# Altium schematic symbol library Inductors.SchLib: 53 symbols
Pins are listed as number, name and electrical type; pins without a type are passive.

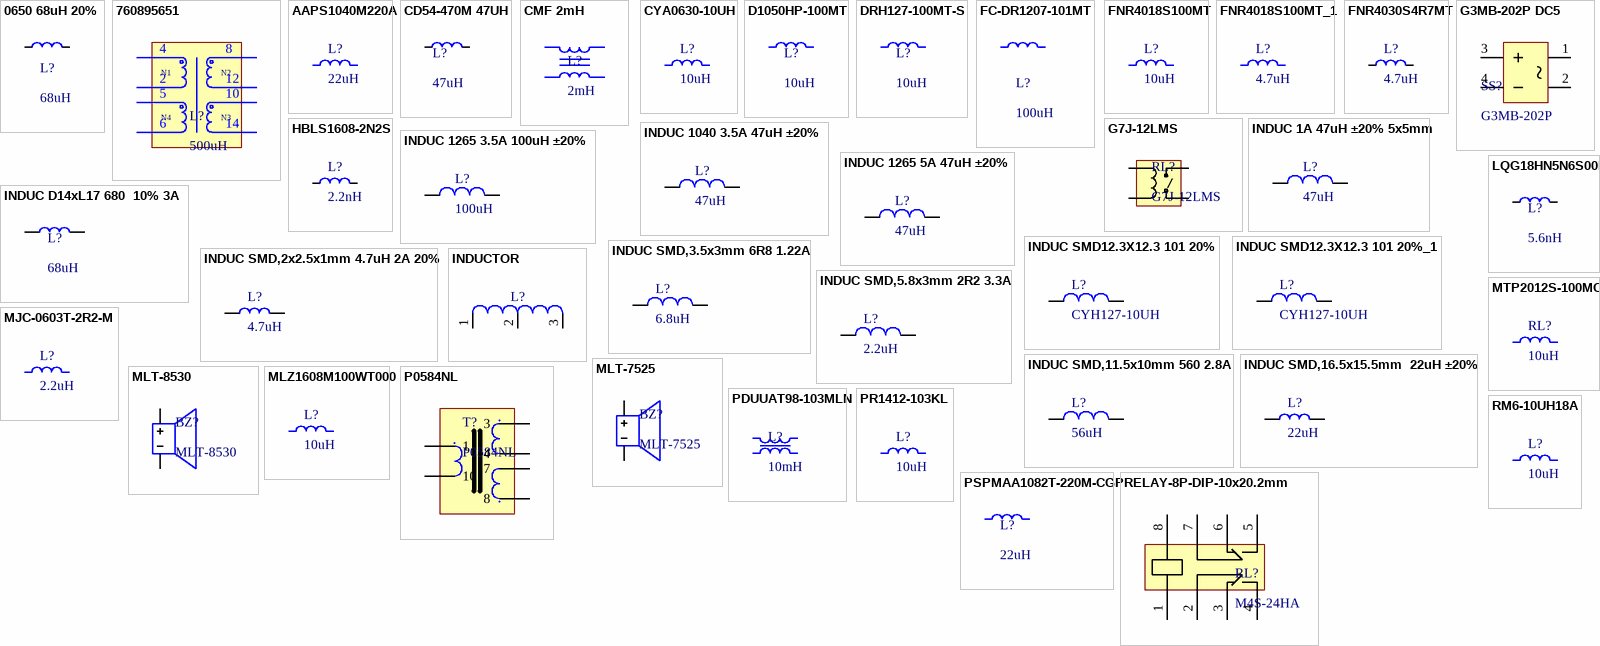
[diagram p0: symbols 0650 68uH 20% to RM6-10UH18A]

## 0650 68uH 20%
designator L?, comment 68uH
1.2A 68uH Molding Choke ±20% 2.2A 0650 Power Inductors ROHS; Manufacturer: DMBJ; Mfr.Part #: CXP0650-680M-AG(68uh); Name: 0650-68uH; So_Chan_Dan: 2; So_Chan_Cam: 0; Package: 0650
footprint 0650 (SMD,7.1x6.6mm)
pins: 1, 2

## 760895651
designator L?, comment 500uH
Resonant Converters For For AC/DC Converters SMPS Transformer 4000Vrms Isolation 70 ~ 120kHz Through Hole; Manufacturer: Würth Elektronik; Mfr.Part #: 760895651; Package: Through Hole,43x44mm; LCSC Part #: NO; DigiKey Part Number: 732-5067-ND; ComponentLink1Description: Link 1; ComponentLink1URL: https://www.digikey.com/en/products/detail/w%C3%BCrth-elektronik/760895651/4692729?s=N4IgTCBcDaIOwDYAMAOAnAVgRgjCAugL5A
footprint Through Hole,43x44mm
pins: 2, 4, 5, 6, 8, 10, 12, 14
text: N1; N2; N4; N3

## AAPS1040M220A
designator L?, comment 22uH
5.05A 22uH 65.3mΩ 5.55A ±20% SMD,11.5x10mm Fixed Inductors RoHS; Manufacturer: Coilank; Mfr.Part #: AAPS1040M220A; Package: SMD,11.5x10mm; LCSC Part #: C47327362; DigiKey Part Number: NO; ComponentLink1Description: Link; ComponentLink1URL: https://www.lcsc.com/product-detail/C47327362.html; ComponentLink2Description: Link 1
footprint SMD,11.5x10mm-(1040)
pins: 1, 2

## CD54-470M 47UH
designator L?, comment 47uH
720mA 47uH ±20% SMD,5.8x5.2mm Power Inductors ROHS; Manufacturer: DMBJ; Mfr.Part #: CD54-470M 47UH; Package: SMD,5.8x5.2mm
footprint CD54 (SMD,5.8x5.2mm)
pins: 1, 2

## CMF 2mH
designator L?, comment 2mH
2mH 2 DIP-4P,21x12.5mm Common Mode Filters ROHS; Manufacturer: XR; Mfr.Part #: XRT16128B-202VFR1L; Name: INDUC 0603 10uH 90mA 20%; So_Chan_Cam: 4; Package: DIP-4P,21x12.5mm
footprint DIP-4P,21x12.5mm
pins: 1, 2, 3, 4

## CYA0630-10UH
designator L?, comment 10uH
4A 10uH 5.5A 71mΩ ±20% SMD,7.2x6.6mm Fixed Inductors RoHS; Manufacturer: SHOU HAN; Mfr.Part #: CYA0630-10UH; Package: SMD,7.2x6.6mm; LCSC Part #: C5189958; DigiKey Part Number: NO; ComponentLink1Description: Link; ComponentLink1URL: https://www.lcsc.com/product-detail/C5189958.html?s_z=n_0630%252010u
footprint 0630,SMD,7x6.6x3mm
pins: 1, 2

## D1050HP-100MT
designator L?, comment 10uH
10uH Molded Inductor ±20% 7.5A SMD,11.6x10.1mm Power Inductors ROHS; Manufacturer: DEYAN; Mfr.Part #: D1050HP-100MT; Package: SMD,11.6x10.1mm; LCSC Part #: C41410648
footprint SMD,11.6x10.1mm
pins: 1, 2

## DRH127-100MT-S
designator L?, comment 10uH
6A 10uH 27mΩ 9A Magnetic Shielded Inductor ±20% SMD,12.5x12.5mm Fixed Inductors RoHS; Manufacturer: DEYAN; Mfr.Part #: DRH127-100MT-S; Package: SMD,12.5x12.5mm; LCSC Part #: C41410710; DigiKey Part Number: NO
footprint SMD,12.5x12.5x8mm
pins: 1, 2

## FC-DR1207-101MT
designator L?, comment 100uH
3A 100uH ±20% 175mΩ 3.5A SMD,12.5x12.5mm Fixed Inductors RoHS; Manufacturer: FANGCHENG; Mfr.Part #: FC-DR1207-101MT; LCSC Part #: C5368704; Package: SMD,12.5x12.5mm; DigiKey Part Number: NO; ComponentLink1Description: Link; ComponentLink1URL: https://www.lcsc.com/product-detail/C5368704.html?s_z=n_FC-DR1207-101MT; ComponentLink2Description: Link 1
footprint SMD,12.5x12.5x8mm
pins: 1, 2

## FNR4018S100MT
designator L?, comment 10uH
1.2A 10uH Magnetic Shielded Inductor ±20% 1.6A 234mΩ SMD,4x4mm Fixed Inductors RoHS; Manufacturer: cjiang; Mfr.Part #: FNR4018S100MT; Package: SMD,4x4mm; LCSC Part #: C167808; DigiKey Part Number: NO
footprint SMD,4x4x1.8mm(4018)
pins: 1, 2

## FNR4018S100MT_1
designator L?, comment 4.7uH
1.2A 10uH Magnetic Shielded Inductor ±20% 1.6A 234mΩ SMD,4x4mm Fixed Inductors RoHS; Manufacturer: cjiang; Mfr.Part #: FNR4018S100MT; Package: SMD,4x4mm; LCSC Part #: C167808; DigiKey Part Number: NO
footprint PCBComponent_1 - duplicate
pins: 1, 2

## FNR4030S4R7MT
designator L?, comment 4.7uH
2.3A 4.7uH Shielded Power Inductor ±20% 3.2A SMD,4x4mm Power Inductors ROHS; Manufacturer: Me-TECHcjiang (Changjiang Microelectronics Tech); Mfr.Part #: FNR4030S4R7MT; Package: SMD,4x4mm
footprint SMD,4x4mm
pins: 1, 2

## G3MB-202P DC5
designator SS?, comment G3MB-202P
Solid State Relays - PCB Mount SOLID STATE RELAY; Manufacturer: Omron Automation and Safety; Mfr.Part #: G3MB-202P DC5; Package: Plugin; Name: G3MB-202P DC5
footprint G3MB-202P
pins: 1 ~, 2 ~, 3 +, 4 _

## G7J-12LMS
designator RL?
Plugin,7.2x20.5mm Power Relays ROHS; Manufacturer: STEIPU; So_Chan_Cam: 4; So_Chan_Dan: 0; Name: G7J-12LMS; Mfr.Part #: G7J-12LMS; Package: Plugin,7.2x20.5mm
footprint Plugin,7.2x20.5mm
pins: 1, 2 100, 3, 4

## HBLS1608-2N2S
designator L?, comment 2.2nH
500mA 2.2nH 100mΩ 0603 Inductors (SMD) ROHS; Manufacturer: HYHONGYEX; Mfr.Part #: HBLS1608-2N2S; Package: 0630
footprint INDUC-0603
pins: 1, 2

## INDUC 1A 47uH ±20% 5x5mm
designator L?, comment 47uH
1A 47uH ±20% 1.1A SMD,5x5mm Power Inductors ROHS; Manufacturer: Sunlord; Mfr.Part #: SWPA5040S470MT; Name: INDUC 1A 47uH ±20% 5x5mm; So_Chan_Cam: 0; So_Chan_Dan: 2; Package: SMD,5x5mm
footprint SMD,5x5mm
pins: 1, 2

## INDUC 1040 3.5A 47uH ±20%
designator L?, comment 47uH
47uH Molding Choke ±20% 5A SMD,10.2x11mm Power Inductors ROHS; Manufacturer: DMBJ; Mfr.Part #: CXP1050-470M-AG(47uh); Name: INDUC 1040 3.5A 47uH ±20%; So_Chan_Cam: 0; So_Chan_Dan: 2; Package: SMD,10.2x11mm
footprint SMD,10.2x11mm-(1040)
pins: 1, 2

## INDUC 1265 3.5A 100uH ±20%
designator L?, comment 100uH
3.5A 100uH Integrated molded inductor ±20% 4A SMD,13.5x12.6mm Power Inductors ROHS; Manufacturer: Magnetsyc; Mfr.Part #: FSA1365-101MT; Name: INDUC 1265 3.5A 100uH ±20%; So_Chan_Cam: 0; So_Chan_Dan: 2; Package: SMD,13.5x12.6mm
footprint SMD,13.5x12.6mm-1265
pins: 1, 2

## INDUC 1265 5A 47uH ±20%
designator L?, comment 47uH
5A 47uH Molding Choke ±20% 5.5A SMD,13.5x12.6mm Power Inductors ROHS; Manufacturer: XR; Mfr.Part #: XR1265-470M; Name: INDUC 1040 3.5A 47uH ±20%; So_Chan_Cam: 0; So_Chan_Dan: 2; Package: SMD,13.5x12.6mm
footprint SMD,13.5x12.6mm-1265
pins: 1, 2

## INDUC D14xL17 680  10% 3A
designator L?, comment 68uH
68 µH Unshielded Inductor 3 A 68mOhm Max Radial, Vertical Cylinder; Manufacturer: TDK; Mfr.Part #: TSL1315S-680K3R0-PF; Name: INDUC D14xL17 680  10% 3A; So_Chan_Dan: 0; So_Chan_Cam: 2; Package: TSL1315
footprint TSL1315
pins: 1, 2

## INDUC SMD12.3X12.3 101 20%
designator L?, comment CYH127-10UH
5.4A 10uH ±20% 23.4mΩ SMD,12.3x12.3mm Inductors (SMD) ROHS; MF: Murata; MP: LQM18DN100M70B; Value: *; Price: None; Package: 0603 Murata; Check_prices: https://www.snapeda.com/parts/LQM18DN100M70B/Murata/view-part/4901244/?ref=eda; SnapEDA_Link: https://www.snapeda.com/parts/LQM18DN100M70B/Murata/view-part/4901244/?ref=snap; Availability: Bad
footprint SMD,12.3X12.3MM
pins: 1, 2

## INDUC SMD12.3X12.3 101 20%_1
designator L?, comment CYH127-10UH
5.4A 10uH ±20% 23.4mΩ SMD,12.3x12.3mm Inductors (SMD) ROHS; MF: Murata; MP: LQM18DN100M70B; Value: *; Price: None; Package: 0603 Murata; Check_prices: https://www.snapeda.com/parts/LQM18DN100M70B/Murata/view-part/4901244/?ref=eda; SnapEDA_Link: https://www.snapeda.com/parts/LQM18DN100M70B/Murata/view-part/4901244/?ref=snap; Availability: Bad
footprint SMD,12.3X12.3MM
pins: 1, 2

## INDUC SMD,2x2.5x1mm 4.7uH 2A 20%
designator L?, comment 4.7uH
2A 4.7uH Integrated molded inductor ±20% 2.6A SMD,2x2.5mm Power Inductors ROHS; Manufacturer: cjiang (Changjiang Microelectronics Tech); Mfr.Part #: FTC252010S4R7MBCA; Name: INDUC SMD,2x2.5x1mm 4.7uH 2A 20%; So_Chan_Dan: 2; So_Chan_Cam: 0; Package: SMD,2x2.5mm
footprint SMD,2x2.5x1mm
pins: 1, 2

## INDUC SMD,3.5x3mm 6R8 1.22A
designator L?, comment 6.8uH
1.22A 6.8uH ±20% SMD,3.5x3mm Power Inductors ROHS; Manufacturer: DMBJ; Mfr.Part #: CD32-6R8M 6.8UH; Name: INDUC SMD,5.8x5.2mm 470 720mA; So_Chan_Dan: 2; So_Chan_Cam: 0; Package: SMD,3.5x3mm
footprint CD32 (SMD,3.5x3mm)
pins: 1, 2

## INDUC SMD,5.8x3mm 2R2 3.3A
designator L?, comment 2.2uH
2.2uH ±30% 2220 Power Inductors ROHS; Manufacturer: GLE; Mfr.Part #: GCCD5830N-2R2N01; Name: INDUC SMD,5.8x3mm 2R2 3.3A; So_Chan_Dan: 2; So_Chan_Cam: 0; Package: SMD,5.8x3mm
footprint SMD,D5.8Xl3mm
pins: 1, 2

## INDUC SMD,11.5x10mm 560 2.8A
designator L?, comment 56uH
2.8A 56uH Integrated molded inductor ±20% 3.2A SMD,11.5x10mm Power Inductors ROHS; Manufacturer: cjiang (Changjiang Microelectronics Tech); Mfr.Part #: FXL1040-560-M; Name: INDUC SMD,11.5x10mm 560 2.8A; So_Chan_Dan: 2; So_Chan_Cam: 0; Package: SMD,11.5x10mm
footprint SMD,11.5x10mm-(1040)
footprint SMD,10.2x11mm-(1040)
pins: 1, 2

## INDUC SMD,16.5x15.5mm  22uH ±20%
designator L?, comment 22uH
22 µH Shielded Inductor 16 A 15.8mOhm Max Nonstandard; Manufacturer: Bourns Inc.; Mfr.Part #: SRP1510CA-220M; So_Chan_Dan: 2; So_Chan_Cam: 0; Name: INDUC SMD,16.5x15.5mm  22uH ±20%; Package: SMD,16.5x15.5mm
footprint SMD16.5x15.5mm
pins: 1, 2

## INDUCTOR
designator L?
footprint 8X10
pins: 1, 2, 3

## LQG18HN5N6S00D
designator L?, comment 5.6nH
800mA 5.6nH 200mΩ 0603 Inductors (SMD) ROHS; Manufacturer: Murata Electronics; Mfr.Part #: LQG18HN5N6S00D; Package: C441735; LCSC Part #: C41410710
footprint INDUC-0603
pins: 1, 2

## MJC-0603T-2R2-M
designator L?, comment 2.2uH
9.5A 2.2uH ±20% 10A 15mΩ SMD,7.1x6.6mm Fixed Inductors RoHS; Manufacturer: Me-TECH; Mfr.Part #: MJC-0603T-2R2-M; Package: SMD,7.1x6.6mm; LCSC Part #: C501707; DigiKey Part Number: NO
footprint 0650 (SMD,7.1x6.6mm)
pins: 1, 2

## MLT-7525
designator BZ?
80dB Passive (external drive) Electromagnetic Type 2.7kHz SMD,7.5x7.5mm Buzzers ROHS; Manufacturer: Jiangsu Huaneng Elec; Mfr.Part #: MLT-7525; Name: MLT-7525; Package: SMD,7.5x7.5mm
footprint SMD,7.5x7.5mm
pins: 1 +, 2 -

## MLT-8530
designator BZ?
80dB Passive (external drive) Electromagnetic Type 2.7kHz SMD,8.5x8.5mm Buzzers ROHS; Manufacturer: Jiangsu Huaneng Elec; Mfr.Part #: MLT-8530; Name: MLT-8530; Package: SMD,8.5x8.5mm
footprint SMD,8.5x8.5mm
pins: 1 +, 2 -

## MLZ1608M100WT000
designator L?, comment 10uH
250mA 10uH 90mA 1.05Ω Multilayer inductor ±20% 0603 Fixed Inductors RoHS; Manufacturer: TDK; Mfr.Part #: MLZ1608M100WT000; LCSC Part #: C76798; Package: 0603; DigiKey Part Number: 445-6389-2-ND; ComponentLink1Description: Link; ComponentLink1URL: https://www.lcsc.com/product-detail/C76798.html; ComponentLink2Description: Link 1; ComponentLink2URL: https://www.digikey.com/en/products/detail/tdk/MLZ1608M100WT000/2465148?s=N4IgTCBcDaILIBkBaBGAbABgBxxRjA6gCr4YgC6AvkA
footprint CAP-0603
pins: 1, 2

## MTP2012S-100MC
designator RL?, comment 10uH
10uH SMD,21.5x22.5mm, 6.5mΩ; Manufacturer: NO; Mfr.Part #: MTP2012S-100MC; DigiKey Part Number: NO; LCSC Part #: NO; Package: SMD,21.5x22.5mm; ComponentLink1Description: Link; ComponentLink1URL: https://detail.tmall.com/item.htm?abbucket=13&id=830337168403&mi_id=0000HfZtw201IDY-IbBo5SBGln4Rs-xlnrA7bLsp8-ByO4c&ns=1&priceTId=2100cff517743435818743772e0cc2&skuId=5563931960637&spm=a21n57.1.hoverItem.11&utparam=%7B%22aplus_abtest%22%3A%2250db852e2facc06d265983063d788b35%22%7D&xxc=taobaoSearch; ComponentLink2Description: Link 1
footprint Plugin,15.6x19.2mm
pins: 1, 2

## P0584NL
designator T?
1:1:1 Plugin,20.6x12.2mm Pulse Transformers(LAN) ROHS; Manufacturer: Pulse Elec; So_Chan_Dan: 6; So_Chan_Cam: 0; Mfr.Part #: P0584NL; Name: P0584NL; Package: Plugin,20.6x12.2mm
footprint Plugin,20.6x12.2mm
pins: 1, 3, 4, 7, 8, 10

## PDUUAT98-103MLN
designator L?, comment 10mH
10mH@1kHz 700mΩ 2 Through Hole-4P,17x12mm Common Mode Chokes RoHS; Manufacturer: PROD Tech; Mfr.Part #: PDUUAT98-103MLN; Package: Through Hole-4P,17x12mm; LCSC Part #: C2909797; DigiKey Part Number: NO; ComponentLink1Description: Link; ComponentLink1URL: https://www.lcsc.com/product-detail/C2909797.html?s_z=n_PDUUAT98-103MLN; ComponentLink2Description: Link 1
footprint Through Hole-4P,17x12mm
pins: 1, 2, 3, 4

## PR1412-103KL
designator L?, comment 10uH
10uH SMD, 14.8.5x14.8mm, 4.5mΩ, Isat 13.2A; Manufacturer: NO; Mfr.Part #: PR1412-103KL; DigiKey Part Number: NO; LCSC Part #: NO; Package: Through Hole,19x13mm; ComponentLink1Description: Link; ComponentLink1URL: https://item.taobao.com/item.htm?abbucket=13&id=725913032063&mi_id=0000W4tRZelso7aPibs8_fbthC11EoOECsZTn6bmB6H3vFQ&ns=1&priceTId=2100c91417744267005415896e0cec&skuId=5042227721595&spm=a21n57.1.hoverItem.4&utparam=%7B%22aplus_abtest%22%3A%223d869fd202b0042b0842ae423ef7ce38%22%7D&xxc=taobaoSearch; ComponentLink2Description: Link 1
footprint PR1412
pins: 1, 2

## PSPMAA1082T-220M-CGP
designator L?, comment 22uH
8A 22uH 35mΩ 10A Molded Inductor ±20% SMD,11x10mm Fixed Inductors RoHS; Manufacturer: PROD Tech; Mfr.Part #: PSPMAA1082T-220M-CGP; Package: SMD,11x10mm; LCSC Part #: C47149121; DigiKey Part Number: NO; ComponentLink1Description: Link; ComponentLink1URL: https://www.lcsc.com/product-detail/C47149121.html?s_z=n_C47149121; ComponentLink2Description: Link 1
footprint SMD,11x10mm
pins: 1, 2

## RELAY-8P-DIP-10x20.2mm
designator RL?, comment M4S-24HA
2A 24V 30V@DC DPDT (2 Form C) 2A@125VAC DIP,10x20.2mm Signal Relays ROHS
footprint DIP,10x20.2mm
pins: 1, 2 1, 3, 4, 5, 6, 7, 8

## RM6-10UH18A
designator L?, comment 10uH
10uH SMD, 21.5x22.5mm, 5mΩ, Isat 12A; Manufacturer: NO; Mfr.Part #: MTP2012S-100MC; DigiKey Part Number: NO; LCSC Part #: NO; Package: Through Hole,19x13mm; ComponentLink1Description: Link; ComponentLink1URL: https://detail.tmall.com/item.htm?abbucket=13&id=830337168403&mi_id=0000HfZtw201IDY-IbBo5SBGln4Rs-xlnrA7bLsp8-ByO4c&ns=1&priceTId=2100cff517743435818743772e0cc2&skuId=5563931960630&spm=a21n57.1.hoverItem.11&utparam=%7B%22aplus_abtest%22%3A%2250db852e2facc06d265983063d788b35%22%7D&xxc=taobaoSearch; ComponentLink2Description: Link 1
footprint RM6
pins: 1, 2

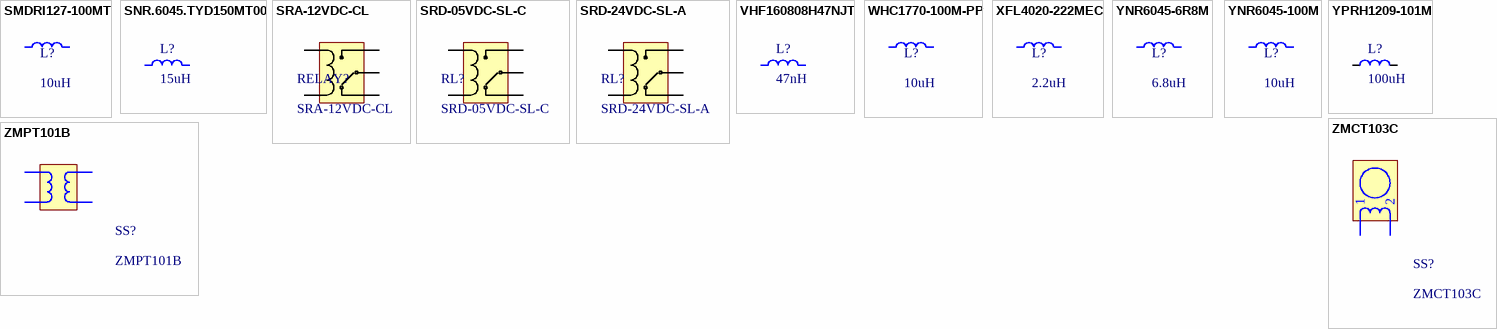
[diagram p1: symbols SMDRI127-100MT to ZMPT101B]

## SMDRI127-100MT
designator L?, comment 10uH
10uH 9A 21mΩ Magnetic Shielded Inductor ±20% SMD,12.3x12.3mm Fixed Inductors RoHS; Manufacturer: Shun Xiang Nuo; Mfr.Part #: SMDRI127-100MT; Package: SMD,12.5x12.5mm; LCSC Part #: C9904; DigiKey Part Number: NO; ComponentLink1Description: Link; ComponentLink1URL: https://www.lcsc.com/product-detail/C9904.html
footprint SMD,12.5x12.5x8mm
pins: 1, 2

## SNR.6045.TYD150MT00
designator L?, comment 15uH
1.9A 15uH ±20% 2.5A SMD,6x6mm Power Inductors ROHS; Manufacturer: SOREDE; Mfr.Part #: SNR.6045.TYD150MT00; Package: SMD,6x6mm; LCSC Part #: C5122846; DigiKey Part Number: NO; ComponentLink1Description: Link; ComponentLink1URL: https://www.lcsc.com/product-detail/C5122846.html?s_z=n_SNR.6045.TYD150MT00; ComponentLink2Description: Link 1
footprint SMD,6x6x4.5mm
pins: 1, 2

## SRA-12VDC-CL
designator RELAY?
125V@AC 12V 10A One Conversion: 1C (SPDT-Conversion) Plugin,12.4x16mm Power Relays ROHS; Manufacturer: Ningbo Songle Relay; So_Chan_Cam: 5; So_Chan_Dan: 0; Name: SRA-12VDC-CL; Mfr.Part #: SRA-12VDC-CL; Package: Plugin,12.4x16mm
footprint Plugin,12.4x16mm
pins: 1, 2, 3, 4, 5

## SRD-05VDC-SL-C
designator RL?
250V@AC 5V 15A One Conversion: 1C (SPDT-Conversion) Plugin,15.6x19.2mm Power Relays ROHS; Manufacturer: Ningbo Songle Relay; So_Chan_Cam: 5; So_Chan_Dan: 0; Name: SRD-05VDC-SL-C; Mfr.Part #: SRD-05VDC-SL-C; Package: Plugin,15.6x19.2mm
footprint Plugin,15.6x19.2mm
pins: 1, 2, 3, 4, 5

## SRD-24VDC-SL-A
designator RL?
Power Relay 1 Form A: 1A (SPST-NO) 24V Coil Through Hole,15.6x19.2mm; Manufacturer: Songle Relay; DigiKey Part Number: NO; Mfr.Part #: SRD-24VDC-SL-A; LCSC Part #: C140616; Package: Through Hole,19.2x15.6mm; ComponentLink1Description: Link; ComponentLink1URL: https://www.lcsc.com/product-detail/C140616.html?s_z=n_SRD-24VDC-SL-A; ComponentLink2Description: Link 1
footprint Plugin,15.6x19.2mm
pins: 1, 2, 3, 4, 5

## VHF160808H47NJT
designator L?, comment 47nH
200mA 47nH 1Ω ±5% 0603 Fixed Inductors RoHS; Manufacturer: FH; Mfr.Part #: VHF160808H47NJT; Package: 0402; LCSC Part #: C90210; DigiKey Part Number: NO; ComponentLink1Description: Link; ComponentLink1URL: https://www.lcsc.com/product-detail/C90210.html?s_z=n_47nh&spm=wm.ssy.bg.9.xh&lcsc_vid=QwdcUVxUFAdbVwUFRQBWBVECTlNYX1QAQFddU1EFQ1kxVlNRQ1NfVVVRR1dXUTsOAxUeFF5JWBYZEEoKFBINSQcJGk4dAgUUFAk%3D; ComponentLink2Description: Link 1
footprint INDUC_0603
pins: 1, 2

## WHC1770-100M-PP
designator L?, comment 10uH
10uH 9.89mΩ Molded Power Inductor ±20% SMD,17.5x17mm Fixed Inductors RoHS; Manufacturer: NO; Mfr.Part #: WHC1770-100M-PP; Package: SMD,17.5x17mm; LCSC Part #: NO; DigiKey Part Number: NO; ComponentLink1Description: Link; ComponentLink2Description: Link 1; ComponentLink2URL: *
footprint SMD,17.5x17mm
pins: 1, 2

## XFL4020-222MEC
designator L?, comment 2.2uH
8A 2.2uH 21.35mΩ 3.7A ±20% SMD,4x4mm Fixed Inductors RoHS; Manufacturer: Coilcraft; Mfr.Part #: XFL4020-222MEC; Package: SMD,4x4mm; LCSC Part #: C122469; DigiKey Part Number: 2457-XFL4020-222MEC-ND; ComponentLink1Description: Link; ComponentLink1URL: https://www.lcsc.com/product-detail/C122469.html; ComponentLink2Description: Link 1; ComponentLink2URL: https://www.digikey.com/en/products/detail/coilcraft/XFL4020-222MEC/21381254?s=N4IgTCBcDaIBoDEAyAWADGNBaMuCyAogMIgC6AvkA
footprint SMD,4x4x2mm
pins: 1, 2

## YNR6045-6R8M
designator L?, comment 6.8uH
3A 6.8uH 31mΩ Magnetic Shielded Inductor ±20% SMD,6x6mm Fixed Inductors RoHS; Manufacturer: YJYCOIN; Mfr.Part #: YNR6045-6R8M; Package: SMD,6x6mm; LCSC Part #: C341066; DigiKey Part Number: NO; ComponentLink1Description: Link; ComponentLink1URL: https://www.lcsc.com/product-detail/C341066.html
footprint SMD,6x6x4.5mm
pins: 1, 2

## YNR6045-100M
designator L?, comment 10uH
2.45A 10uH 48mΩ Magnetic Shielded Inductor ±20% SMD,6x6mm Fixed Inductors RoHS; Manufacturer: YJYCOIN; Mfr.Part #: YNR6045-100M; Package: SMD,6x6mm; LCSC Part #: C341067; DigiKey Part Number: NO; ComponentLink1Description: Link; ComponentLink1URL: https://www.lcsc.com/product-detail/C341067.html?s_z=n_YNR6045-100
footprint SMD,6x6x4.5mm
pins: 1, 2

## YPRH1209-101M
designator L?, comment 100uH
2.31A 100uH Shielded Power Inductor ±20% SMD,12x12mm Power Inductors ROHS; Manufacturer: YJYCOIN; Mfr.Part #: YPRH1209-101M; Package: SMD,12x12mm
footprint SMD,12X12MM-INDUCTOR
pins: 1, 2

## ZMCT103C
designator SS?
5mA 1000:1 5A Through Hole Current Transformers RoHS; Manufacturer: ZHE MING LANG XI; Mfr.Part #: ZMCT103C; Package: Through Hole; LCSC Part #: C94571; DigiKey Part Number: NO
footprint ZMCT103C
pins: 1, 2

## ZMPT101B
designator SS?
2mA 1:1 2mA Through Hole Current Transformers RoHS; Manufacturer: ZHE MING LANG XI; Mfr.Part #: ZMPT101B; Package: Through Hole; LCSC Part #: C111858; DigiKey Part Number: NO
footprint ZMPT101B
pins: 1, 2, 3, 4